# Altium schematic symbol library ULT2H4R7MNL1GS.SchLib: 1 symbol
Pins are listed as number, name and electrical type; pins without a type are passive.

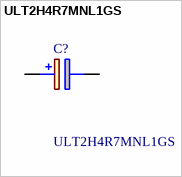
[diagram p0: symbol ULT2H4R7MNL1GS]

## ULT2H4R7MNL1GS
designator C?
Aluminum Electrolytic Capacitors - SMD 500V 4.7UF 20%; Manufacturer_Name: Nichicon; Geometry.Height: 14.5mm; Mouser Part Number: 647-ULT2H4R7MNL1GS; Mouser Price/Stock: https://www.mouser.com/Search/Refine.aspx?Keyword=647-ULT2H4R7MNL1GS; Manufacturer_Part_Number: ULT2H4R7MNL1GS; Datasheet Link: https://componentsearchengine.com/Datasheets/1/ULT2H4R7MNL1GS.pdf
footprint CAPAE1030X1450N
pins: 1 +, 2 -